# Altium schematic symbol library AD9288.SchLib: 1 symbol
Pins are listed as number, name and electrical type; pins without a type are passive.

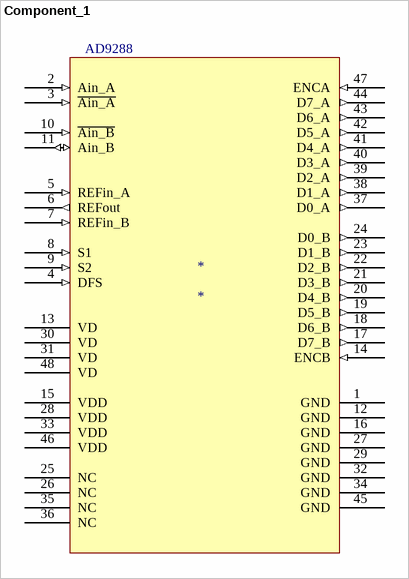
[diagram p0: symbol Component_1]

## Component_1
designator *
pins: 1 GND, 2 Ain_A (in), 3 ~{Ain_A} (in), 4 DFS (in), 5 REFin_A (in), 6 REFout (out), 7 REFin_B (in), 8 S1 (in), 9 S2 (in), 10 ~{Ain_B} (in), 11 Ain_B (io), 12 GND, 13 VD, 14 ENCB (in), 15 VDD, 16 GND, 17 D7_B (out), 18 D6_B (out), 19 D5_B (out), 20 D4_B (out), 21 D3_B (out), 22 D2_B (out), 23 D1_B (out), 24 D0_B (out), 25 NC, 26 NC, 27 GND, 28 VDD, 29 GND, 30 VD, 31 VD, 32 GND, 33 VDD, 34 GND, 35 NC, 36 NC, 37 D0_A (out), 38 D1_A (out), 39 D2_A (out), 40 D3_A (out), 41 D4_A (out), 42 D5_A (out), 43 D6_A (out), 44 D7_A (out), 45 GND, 46 VDD, 47 ENCA (in), 48 VD
text: AD9288